# Altium integrated library Vishay Roederstein Electrolytic Snap-In Pins Capacitor.IntLib: 936 symbols (part 4 of 16)
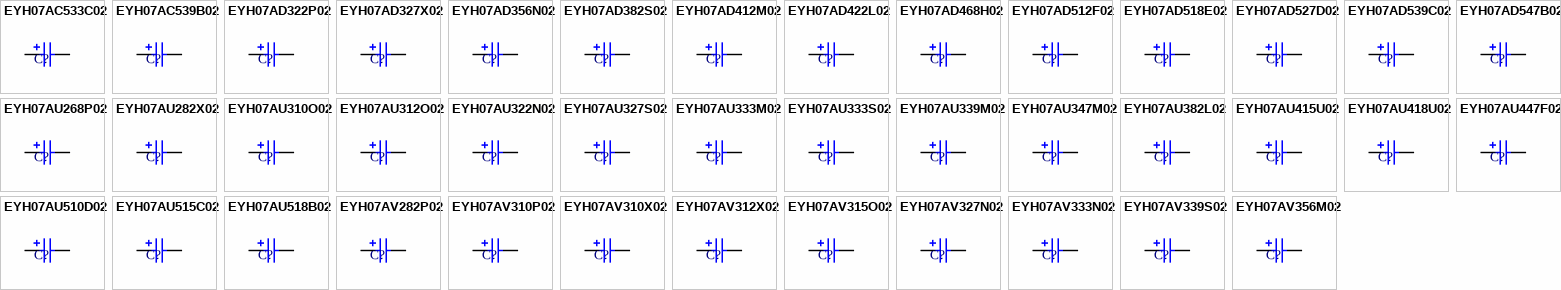
[diagram p26: symbols EYH07AC533C02 to EYH07AV356M02]

## EYH07AU333M02
designator C?
Aluminum Electrolytic Capacitor, Power Capacitor Style EYH, Snap-in 6mm Solder Pins: 330uF, 160V; PCB_Layout: Complies with Manufacturer's Recommendation.; DrillSize: Nominal, Complies with Manufacturer's Recommendation.; Published: 19-Mar-2004; DatasheetDocument: 14-Feb-2002; PackageReference: CAPPRS10-25X25; Publisher: Altium Limited; ComponentLink1Description: Manufacturer Link; ComponentLink1URL: http://www.vishay.com/; ComponentLink2Description: Datasheet; ComponentLink2URL: http://www.vishay.com/docs/25139/eyh.pdf; Value: 330uF
footprint CAPPRS10-25X25 (Capacitor, Electrolytic, Radial, Snap-In Pins; Body 25 x 25 mm (Dia.xH typ); Pin Spacing 10 mm (typ))
simulation model CAP (Capacitor)
signal-integrity model EYH07AU333M02
pins: 1, 2
1 alternate drawing of the same symbol

## EYH07AU333S02
designator C?
Aluminum Electrolytic Capacitor, Power Capacitor Style EYH, Snap-in 6mm Solder Pins: 330uF, 200V; PCB_Layout: Complies with Manufacturer's Recommendation.; DrillSize: Nominal, Complies with Manufacturer's Recommendation.; Published: 19-Mar-2004; DatasheetDocument: 14-Feb-2002; PackageReference: CAPPRS10-25X25; Publisher: Altium Limited; ComponentLink1Description: Manufacturer Link; ComponentLink1URL: http://www.vishay.com/; ComponentLink2Description: Datasheet; ComponentLink2URL: http://www.vishay.com/docs/25139/eyh.pdf; Value: 330uF
footprint CAPPRS10-25X25 (Capacitor, Electrolytic, Radial, Snap-In Pins; Body 25 x 25 mm (Dia.xH typ); Pin Spacing 10 mm (typ))
simulation model CAP (Capacitor)
signal-integrity model EYH07AU333S02
pins: 1, 2
1 alternate drawing of the same symbol

## EYH07AU339M02
designator C?
Aluminum Electrolytic Capacitor, Power Capacitor Style EYH, Snap-in 6mm Solder Pins: 390uF, 160V; PCB_Layout: Complies with Manufacturer's Recommendation.; DrillSize: Nominal, Complies with Manufacturer's Recommendation.; Published: 19-Mar-2004; DatasheetDocument: 14-Feb-2002; PackageReference: CAPPRS10-25X25; Publisher: Altium Limited; ComponentLink1Description: Manufacturer Link; ComponentLink1URL: http://www.vishay.com/; ComponentLink2Description: Datasheet; ComponentLink2URL: http://www.vishay.com/docs/25139/eyh.pdf; Value: 390uF
footprint CAPPRS10-25X25 (Capacitor, Electrolytic, Radial, Snap-In Pins; Body 25 x 25 mm (Dia.xH typ); Pin Spacing 10 mm (typ))
simulation model CAP (Capacitor)
signal-integrity model EYH07AU339M02
pins: 1, 2
1 alternate drawing of the same symbol

## EYH07AU347M02
designator C?
Aluminum Electrolytic Capacitor, Power Capacitor Style EYH, Snap-in 6mm Solder Pins: 470uF, 160V; PCB_Layout: Complies with Manufacturer's Recommendation.; DrillSize: Nominal, Complies with Manufacturer's Recommendation.; Published: 19-Mar-2004; DatasheetDocument: 14-Feb-2002; PackageReference: CAPPRS10-25X25; Publisher: Altium Limited; ComponentLink1Description: Manufacturer Link; ComponentLink1URL: http://www.vishay.com/; ComponentLink2Description: Datasheet; ComponentLink2URL: http://www.vishay.com/docs/25139/eyh.pdf; Value: 470uF
footprint CAPPRS10-25X25 (Capacitor, Electrolytic, Radial, Snap-In Pins; Body 25 x 25 mm (Dia.xH typ); Pin Spacing 10 mm (typ))
simulation model CAP (Capacitor)
signal-integrity model EYH07AU347M02
pins: 1, 2
1 alternate drawing of the same symbol

## EYH07AU382L02
designator C?
Aluminum Electrolytic Capacitor, Power Capacitor Style EYH, Snap-in 6mm Solder Pins: 820uF, 100V; PCB_Layout: Complies with Manufacturer's Recommendation.; DrillSize: Nominal, Complies with Manufacturer's Recommendation.; Published: 19-Mar-2004; DatasheetDocument: 14-Feb-2002; PackageReference: CAPPRS10-25X25; Publisher: Altium Limited; ComponentLink1Description: Manufacturer Link; ComponentLink1URL: http://www.vishay.com/; ComponentLink2Description: Datasheet; ComponentLink2URL: http://www.vishay.com/docs/25139/eyh.pdf; Value: 820uF
footprint CAPPRS10-25X25 (Capacitor, Electrolytic, Radial, Snap-In Pins; Body 25 x 25 mm (Dia.xH typ); Pin Spacing 10 mm (typ))
simulation model CAP (Capacitor)
signal-integrity model EYH07AU382L02
pins: 1, 2
1 alternate drawing of the same symbol

## EYH07AU415U02
designator C?
Aluminum Electrolytic Capacitor, Power Capacitor Style EYH, Snap-in 6mm Solder Pins: 1500uF, 63V; PCB_Layout: Complies with Manufacturer's Recommendation.; DrillSize: Nominal, Complies with Manufacturer's Recommendation.; Published: 19-Mar-2004; DatasheetDocument: 14-Feb-2002; PackageReference: CAPPRS10-25X25; Publisher: Altium Limited; ComponentLink1Description: Manufacturer Link; ComponentLink1URL: http://www.vishay.com/; ComponentLink2Description: Datasheet; ComponentLink2URL: http://www.vishay.com/docs/25139/eyh.pdf; Value: 1500uF
footprint CAPPRS10-25X25 (Capacitor, Electrolytic, Radial, Snap-In Pins; Body 25 x 25 mm (Dia.xH typ); Pin Spacing 10 mm (typ))
simulation model CAP (Capacitor)
signal-integrity model EYH07AU415U02
pins: 1, 2
1 alternate drawing of the same symbol

## EYH07AU418U02
designator C?
Aluminum Electrolytic Capacitor, Power Capacitor Style EYH, Snap-in 6mm Solder Pins: 1800uF, 63V; PCB_Layout: Complies with Manufacturer's Recommendation.; DrillSize: Nominal, Complies with Manufacturer's Recommendation.; Published: 19-Mar-2004; DatasheetDocument: 14-Feb-2002; PackageReference: CAPPRS10-25X25; Publisher: Altium Limited; ComponentLink1Description: Manufacturer Link; ComponentLink1URL: http://www.vishay.com/; ComponentLink2Description: Datasheet; ComponentLink2URL: http://www.vishay.com/docs/25139/eyh.pdf; Value: 1800uF
footprint CAPPRS10-25X25 (Capacitor, Electrolytic, Radial, Snap-In Pins; Body 25 x 25 mm (Dia.xH typ); Pin Spacing 10 mm (typ))
simulation model CAP (Capacitor)
signal-integrity model EYH07AU418U02
pins: 1, 2
1 alternate drawing of the same symbol

## EYH07AU447F02
designator C?
Aluminum Electrolytic Capacitor, Power Capacitor Style EYH, Snap-in 6mm Solder Pins: 4700uF, 35V; PCB_Layout: Complies with Manufacturer's Recommendation.; DrillSize: Nominal, Complies with Manufacturer's Recommendation.; Published: 19-Mar-2004; DatasheetDocument: 14-Feb-2002; PackageReference: CAPPRS10-25X25; Publisher: Altium Limited; ComponentLink1Description: Manufacturer Link; ComponentLink1URL: http://www.vishay.com/; ComponentLink2Description: Datasheet; ComponentLink2URL: http://www.vishay.com/docs/25139/eyh.pdf; Value: 4700uF
footprint CAPPRS10-25X25 (Capacitor, Electrolytic, Radial, Snap-In Pins; Body 25 x 25 mm (Dia.xH typ); Pin Spacing 10 mm (typ))
simulation model CAP (Capacitor)
signal-integrity model EYH07AU447F02
pins: 1, 2
1 alternate drawing of the same symbol

## EYH07AU510D02
designator C?
Aluminum Electrolytic Capacitor, Power Capacitor Style EYH, Snap-in 6mm Solder Pins: 10000uF, 16V; PCB_Layout: Complies with Manufacturer's Recommendation.; DrillSize: Nominal, Complies with Manufacturer's Recommendation.; Published: 19-Mar-2004; DatasheetDocument: 14-Feb-2002; PackageReference: CAPPRS10-25X25; Publisher: Altium Limited; ComponentLink1Description: Manufacturer Link; ComponentLink1URL: http://www.vishay.com/; ComponentLink2Description: Datasheet; ComponentLink2URL: http://www.vishay.com/docs/25139/eyh.pdf; Value: 10000uF
footprint CAPPRS10-25X25 (Capacitor, Electrolytic, Radial, Snap-In Pins; Body 25 x 25 mm (Dia.xH typ); Pin Spacing 10 mm (typ))
simulation model CAP (Capacitor)
signal-integrity model EYH07AU510D02
pins: 1, 2
1 alternate drawing of the same symbol

## EYH07AU515C02
designator C?
Aluminum Electrolytic Capacitor, Power Capacitor Style EYH, Snap-in 6mm Solder Pins: 15000uF, 10V; PCB_Layout: Complies with Manufacturer's Recommendation.; DrillSize: Nominal, Complies with Manufacturer's Recommendation.; Published: 19-Mar-2004; DatasheetDocument: 14-Feb-2002; PackageReference: CAPPRS10-25X25; Publisher: Altium Limited; ComponentLink1Description: Manufacturer Link; ComponentLink1URL: http://www.vishay.com/; ComponentLink2Description: Datasheet; ComponentLink2URL: http://www.vishay.com/docs/25139/eyh.pdf; Value: 15000uF
footprint CAPPRS10-25X25 (Capacitor, Electrolytic, Radial, Snap-In Pins; Body 25 x 25 mm (Dia.xH typ); Pin Spacing 10 mm (typ))
simulation model CAP (Capacitor)
signal-integrity model EYH07AU515C02
pins: 1, 2
1 alternate drawing of the same symbol

## EYH07AU518B02
designator C?
Aluminum Electrolytic Capacitor, Power Capacitor Style EYH, Snap-in 6mm Solder Pins: 18000uF, 6.3V; PCB_Layout: Complies with Manufacturer's Recommendation.; DrillSize: Nominal, Complies with Manufacturer's Recommendation.; Published: 19-Mar-2004; DatasheetDocument: 14-Feb-2002; PackageReference: CAPPRS10-25X25; Publisher: Altium Limited; ComponentLink1Description: Manufacturer Link; ComponentLink1URL: http://www.vishay.com/; ComponentLink2Description: Datasheet; ComponentLink2URL: http://www.vishay.com/docs/25139/eyh.pdf; Value: 18000uF
footprint CAPPRS10-25X25 (Capacitor, Electrolytic, Radial, Snap-In Pins; Body 25 x 25 mm (Dia.xH typ); Pin Spacing 10 mm (typ))
simulation model CAP (Capacitor)
signal-integrity model EYH07AU518B02
pins: 1, 2
1 alternate drawing of the same symbol

## EYH07AV282P02
designator C?
Aluminum Electrolytic Capacitor, Power Capacitor Style EYH, Snap-in 6mm Solder Pins: 82uF, 450V; PCB_Layout: Complies with Manufacturer's Recommendation.; DrillSize: Nominal, Complies with Manufacturer's Recommendation.; Published: 19-Mar-2004; DatasheetDocument: 14-Feb-2002; PackageReference: CAPPRS10-25X30; Publisher: Altium Limited; ComponentLink1Description: Manufacturer Link; ComponentLink1URL: http://www.vishay.com/; ComponentLink2Description: Datasheet; ComponentLink2URL: http://www.vishay.com/docs/25139/eyh.pdf; Value: 82uF
footprint CAPPRS10-25X30 (Capacitor, Electrolytic, Radial, Snap-In Pins; Body 25 x 30 mm (Dia.xH typ); Pin Spacing 10 mm (typ))
simulation model CAP (Capacitor)
signal-integrity model EYH07AV282P02
pins: 1, 2
1 alternate drawing of the same symbol

## EYH07AV310P02
designator C?
Aluminum Electrolytic Capacitor, Power Capacitor Style EYH, Snap-in 6mm Solder Pins: 100uF, 450V; PCB_Layout: Complies with Manufacturer's Recommendation.; DrillSize: Nominal, Complies with Manufacturer's Recommendation.; Published: 19-Mar-2004; DatasheetDocument: 14-Feb-2002; PackageReference: CAPPRS10-25X30; Publisher: Altium Limited; ComponentLink1Description: Manufacturer Link; ComponentLink1URL: http://www.vishay.com/; ComponentLink2Description: Datasheet; ComponentLink2URL: http://www.vishay.com/docs/25139/eyh.pdf; Value: 100uF
footprint CAPPRS10-25X30 (Capacitor, Electrolytic, Radial, Snap-In Pins; Body 25 x 30 mm (Dia.xH typ); Pin Spacing 10 mm (typ))
simulation model CAP (Capacitor)
signal-integrity model EYH07AV310P02
pins: 1, 2
1 alternate drawing of the same symbol

## EYH07AV310X02
designator C?
Aluminum Electrolytic Capacitor, Power Capacitor Style EYH, Snap-in 6mm Solder Pins: 100uF, 400V; PCB_Layout: Complies with Manufacturer's Recommendation.; DrillSize: Nominal, Complies with Manufacturer's Recommendation.; Published: 19-Mar-2004; DatasheetDocument: 14-Feb-2002; PackageReference: CAPPRS10-25X30; Publisher: Altium Limited; ComponentLink1Description: Manufacturer Link; ComponentLink1URL: http://www.vishay.com/; ComponentLink2Description: Datasheet; ComponentLink2URL: http://www.vishay.com/docs/25139/eyh.pdf; Value: 100uF
footprint CAPPRS10-25X30 (Capacitor, Electrolytic, Radial, Snap-In Pins; Body 25 x 30 mm (Dia.xH typ); Pin Spacing 10 mm (typ))
simulation model CAP (Capacitor)
signal-integrity model EYH07AV310X02
pins: 1, 2
1 alternate drawing of the same symbol

## EYH07AV312X02
designator C?
Aluminum Electrolytic Capacitor, Power Capacitor Style EYH, Snap-in 6mm Solder Pins: 120uF, 400V; PCB_Layout: Complies with Manufacturer's Recommendation.; DrillSize: Nominal, Complies with Manufacturer's Recommendation.; Published: 19-Mar-2004; DatasheetDocument: 14-Feb-2002; PackageReference: CAPPRS10-25X30; Publisher: Altium Limited; ComponentLink1Description: Manufacturer Link; ComponentLink1URL: http://www.vishay.com/; ComponentLink2Description: Datasheet; ComponentLink2URL: http://www.vishay.com/docs/25139/eyh.pdf; Value: 120uF
footprint CAPPRS10-25X30 (Capacitor, Electrolytic, Radial, Snap-In Pins; Body 25 x 30 mm (Dia.xH typ); Pin Spacing 10 mm (typ))
simulation model CAP (Capacitor)
signal-integrity model EYH07AV312X02
pins: 1, 2
1 alternate drawing of the same symbol

## EYH07AV315O02
designator C?
Aluminum Electrolytic Capacitor, Power Capacitor Style EYH, Snap-in 6mm Solder Pins: 150uF, 350V; PCB_Layout: Complies with Manufacturer's Recommendation.; DrillSize: Nominal, Complies with Manufacturer's Recommendation.; Published: 19-Mar-2004; DatasheetDocument: 14-Feb-2002; PackageReference: CAPPRS10-25X30; Publisher: Altium Limited; ComponentLink1Description: Manufacturer Link; ComponentLink1URL: http://www.vishay.com/; ComponentLink2Description: Datasheet; ComponentLink2URL: http://www.vishay.com/docs/25139/eyh.pdf; Value: 150uF
footprint CAPPRS10-25X30 (Capacitor, Electrolytic, Radial, Snap-In Pins; Body 25 x 30 mm (Dia.xH typ); Pin Spacing 10 mm (typ))
simulation model CAP (Capacitor)
signal-integrity model EYH07AV315O02
pins: 1, 2
1 alternate drawing of the same symbol

## EYH07AV327N02
designator C?
Aluminum Electrolytic Capacitor, Power Capacitor Style EYH, Snap-in 6mm Solder Pins: 270uF, 250V; PCB_Layout: Complies with Manufacturer's Recommendation.; DrillSize: Nominal, Complies with Manufacturer's Recommendation.; Published: 19-Mar-2004; DatasheetDocument: 14-Feb-2002; PackageReference: CAPPRS10-25X30; Publisher: Altium Limited; ComponentLink1Description: Manufacturer Link; ComponentLink1URL: http://www.vishay.com/; ComponentLink2Description: Datasheet; ComponentLink2URL: http://www.vishay.com/docs/25139/eyh.pdf; Value: 270uF
footprint CAPPRS10-25X30 (Capacitor, Electrolytic, Radial, Snap-In Pins; Body 25 x 30 mm (Dia.xH typ); Pin Spacing 10 mm (typ))
simulation model CAP (Capacitor)
signal-integrity model EYH07AV327N02
pins: 1, 2
1 alternate drawing of the same symbol

## EYH07AV333N02
designator C?
Aluminum Electrolytic Capacitor, Power Capacitor Style EYH, Snap-in 6mm Solder Pins: 330uF, 250V; PCB_Layout: Complies with Manufacturer's Recommendation.; DrillSize: Nominal, Complies with Manufacturer's Recommendation.; Published: 19-Mar-2004; DatasheetDocument: 14-Feb-2002; PackageReference: CAPPRS10-25X30; Publisher: Altium Limited; ComponentLink1Description: Manufacturer Link; ComponentLink1URL: http://www.vishay.com/; ComponentLink2Description: Datasheet; ComponentLink2URL: http://www.vishay.com/docs/25139/eyh.pdf; Value: 330uF
footprint CAPPRS10-25X30 (Capacitor, Electrolytic, Radial, Snap-In Pins; Body 25 x 30 mm (Dia.xH typ); Pin Spacing 10 mm (typ))
simulation model CAP (Capacitor)
signal-integrity model EYH07AV333N02
pins: 1, 2
1 alternate drawing of the same symbol

## EYH07AV339S02
designator C?
Aluminum Electrolytic Capacitor, Power Capacitor Style EYH, Snap-in 6mm Solder Pins: 390uF, 200V; PCB_Layout: Complies with Manufacturer's Recommendation.; DrillSize: Nominal, Complies with Manufacturer's Recommendation.; Published: 19-Mar-2004; DatasheetDocument: 14-Feb-2002; PackageReference: CAPPRS10-25X30; Publisher: Altium Limited; ComponentLink1Description: Manufacturer Link; ComponentLink1URL: http://www.vishay.com/; ComponentLink2Description: Datasheet; ComponentLink2URL: http://www.vishay.com/docs/25139/eyh.pdf; Value: 390uF
footprint CAPPRS10-25X30 (Capacitor, Electrolytic, Radial, Snap-In Pins; Body 25 x 30 mm (Dia.xH typ); Pin Spacing 10 mm (typ))
simulation model CAP (Capacitor)
signal-integrity model EYH07AV339S02
pins: 1, 2
1 alternate drawing of the same symbol

## EYH07AV356M02
designator C?
Aluminum Electrolytic Capacitor, Power Capacitor Style EYH, Snap-in 6mm Solder Pins: 560uF, 160V; PCB_Layout: Complies with Manufacturer's Recommendation.; DrillSize: Nominal, Complies with Manufacturer's Recommendation.; Published: 19-Mar-2004; DatasheetDocument: 14-Feb-2002; PackageReference: CAPPRS10-25X30; Publisher: Altium Limited; ComponentLink1Description: Manufacturer Link; ComponentLink1URL: http://www.vishay.com/; ComponentLink2Description: Datasheet; ComponentLink2URL: http://www.vishay.com/docs/25139/eyh.pdf; Value: 560uF
footprint CAPPRS10-25X30 (Capacitor, Electrolytic, Radial, Snap-In Pins; Body 25 x 30 mm (Dia.xH typ); Pin Spacing 10 mm (typ))
simulation model CAP (Capacitor)
signal-integrity model EYH07AV356M02
pins: 1, 2
1 alternate drawing of the same symbol

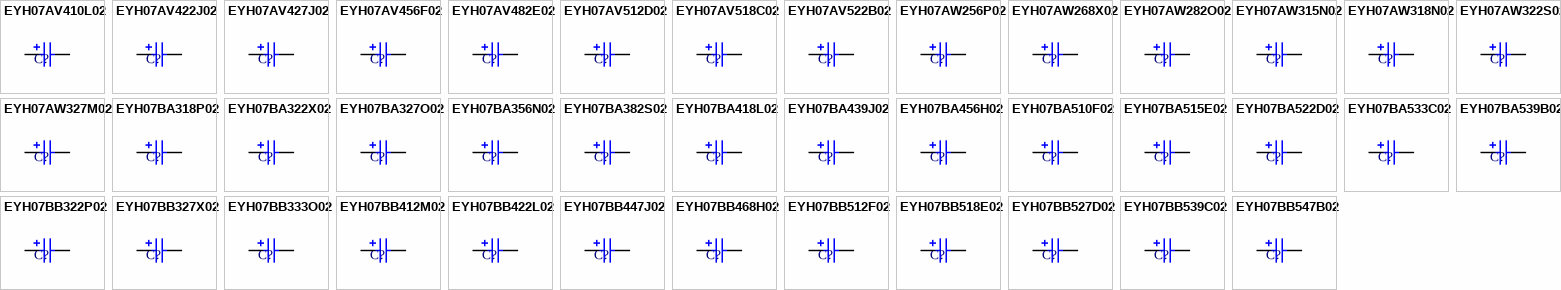
[diagram p5: symbols EYH07AV410L02 to EYH07BB547B02]

## EYH07AV410L02
designator C?
Aluminum Electrolytic Capacitor, Power Capacitor Style EYH, Snap-in 6mm Solder Pins: 1000uF, 100V; PCB_Layout: Complies with Manufacturer's Recommendation.; DrillSize: Nominal, Complies with Manufacturer's Recommendation.; Published: 19-Mar-2004; DatasheetDocument: 14-Feb-2002; PackageReference: CAPPRS10-25X30; Publisher: Altium Limited; ComponentLink1Description: Manufacturer Link; ComponentLink1URL: http://www.vishay.com/; ComponentLink2Description: Datasheet; ComponentLink2URL: http://www.vishay.com/docs/25139/eyh.pdf; Value: 1000uF
footprint CAPPRS10-25X30 (Capacitor, Electrolytic, Radial, Snap-In Pins; Body 25 x 30 mm (Dia.xH typ); Pin Spacing 10 mm (typ))
simulation model CAP (Capacitor)
signal-integrity model EYH07AV410L02
pins: 1, 2
1 alternate drawing of the same symbol

## EYH07AV422J02
designator C?
Aluminum Electrolytic Capacitor, Power Capacitor Style EYH, Snap-in 6mm Solder Pins: 2200uF, 63V; PCB_Layout: Complies with Manufacturer's Recommendation.; DrillSize: Nominal, Complies with Manufacturer's Recommendation.; Published: 19-Mar-2004; DatasheetDocument: 14-Feb-2002; PackageReference: CAPPRS10-25X30; Publisher: Altium Limited; ComponentLink1Description: Manufacturer Link; ComponentLink1URL: http://www.vishay.com/; ComponentLink2Description: Datasheet; ComponentLink2URL: http://www.vishay.com/docs/25139/eyh.pdf; Value: 2200uF
footprint CAPPRS10-25X30 (Capacitor, Electrolytic, Radial, Snap-In Pins; Body 25 x 30 mm (Dia.xH typ); Pin Spacing 10 mm (typ))
simulation model CAP (Capacitor)
signal-integrity model EYH07AV422J02
pins: 1, 2
1 alternate drawing of the same symbol

## EYH07AV427J02
designator C?
Aluminum Electrolytic Capacitor, Power Capacitor Style EYH, Snap-in 6mm Solder Pins: 2700uF, 63V; PCB_Layout: Complies with Manufacturer's Recommendation.; DrillSize: Nominal, Complies with Manufacturer's Recommendation.; Published: 19-Mar-2004; DatasheetDocument: 14-Feb-2002; PackageReference: CAPPRS10-25X30; Publisher: Altium Limited; ComponentLink1Description: Manufacturer Link; ComponentLink1URL: http://www.vishay.com/; ComponentLink2Description: Datasheet; ComponentLink2URL: http://www.vishay.com/docs/25139/eyh.pdf; Value: 2700uF
footprint CAPPRS10-25X30 (Capacitor, Electrolytic, Radial, Snap-In Pins; Body 25 x 30 mm (Dia.xH typ); Pin Spacing 10 mm (typ))
simulation model CAP (Capacitor)
signal-integrity model EYH07AV427J02
pins: 1, 2
1 alternate drawing of the same symbol

## EYH07AV456F02
designator C?
Aluminum Electrolytic Capacitor, Power Capacitor Style EYH, Snap-in 6mm Solder Pins: 5600uF, 35V; PCB_Layout: Complies with Manufacturer's Recommendation.; DrillSize: Nominal, Complies with Manufacturer's Recommendation.; Published: 19-Mar-2004; DatasheetDocument: 14-Feb-2002; PackageReference: CAPPRS10-25X30; Publisher: Altium Limited; ComponentLink1Description: Manufacturer Link; ComponentLink1URL: http://www.vishay.com/; ComponentLink2Description: Datasheet; ComponentLink2URL: http://www.vishay.com/docs/25139/eyh.pdf; Value: 5600uF
footprint CAPPRS10-25X30 (Capacitor, Electrolytic, Radial, Snap-In Pins; Body 25 x 30 mm (Dia.xH typ); Pin Spacing 10 mm (typ))
simulation model CAP (Capacitor)
signal-integrity model EYH07AV456F02
pins: 1, 2
1 alternate drawing of the same symbol

## EYH07AV482E02
designator C?
Aluminum Electrolytic Capacitor, Power Capacitor Style EYH, Snap-in 6mm Solder Pins: 8200uF, 25V; PCB_Layout: Complies with Manufacturer's Recommendation.; DrillSize: Nominal, Complies with Manufacturer's Recommendation.; Published: 19-Mar-2004; DatasheetDocument: 14-Feb-2002; PackageReference: CAPPRS10-25X30; Publisher: Altium Limited; ComponentLink1Description: Manufacturer Link; ComponentLink1URL: http://www.vishay.com/; ComponentLink2Description: Datasheet; ComponentLink2URL: http://www.vishay.com/docs/25139/eyh.pdf; Value: 8200uF
footprint CAPPRS10-25X30 (Capacitor, Electrolytic, Radial, Snap-In Pins; Body 25 x 30 mm (Dia.xH typ); Pin Spacing 10 mm (typ))
simulation model CAP (Capacitor)
signal-integrity model EYH07AV482E02
pins: 1, 2
1 alternate drawing of the same symbol

## EYH07AV512D02
designator C?
Aluminum Electrolytic Capacitor, Power Capacitor Style EYH, Snap-in 6mm Solder Pins: 12000uF, 16V; PCB_Layout: Complies with Manufacturer's Recommendation.; DrillSize: Nominal, Complies with Manufacturer's Recommendation.; Published: 19-Mar-2004; DatasheetDocument: 14-Feb-2002; PackageReference: CAPPRS10-25X30; Publisher: Altium Limited; ComponentLink1Description: Manufacturer Link; ComponentLink1URL: http://www.vishay.com/; ComponentLink2Description: Datasheet; ComponentLink2URL: http://www.vishay.com/docs/25139/eyh.pdf; Value: 12000uF
footprint CAPPRS10-25X30 (Capacitor, Electrolytic, Radial, Snap-In Pins; Body 25 x 30 mm (Dia.xH typ); Pin Spacing 10 mm (typ))
simulation model CAP (Capacitor)
signal-integrity model EYH07AV512D02
pins: 1, 2
1 alternate drawing of the same symbol

## EYH07AV518C02
designator C?
Aluminum Electrolytic Capacitor, Power Capacitor Style EYH, Snap-in 6mm Solder Pins: 18000uF, 10V; PCB_Layout: Complies with Manufacturer's Recommendation.; DrillSize: Nominal, Complies with Manufacturer's Recommendation.; Published: 19-Mar-2004; DatasheetDocument: 14-Feb-2002; PackageReference: CAPPRS10-25X30; Publisher: Altium Limited; ComponentLink1Description: Manufacturer Link; ComponentLink1URL: http://www.vishay.com/; ComponentLink2Description: Datasheet; ComponentLink2URL: http://www.vishay.com/docs/25139/eyh.pdf; Value: 18000uF
footprint CAPPRS10-25X30 (Capacitor, Electrolytic, Radial, Snap-In Pins; Body 25 x 30 mm (Dia.xH typ); Pin Spacing 10 mm (typ))
simulation model CAP (Capacitor)
signal-integrity model EYH07AV518C02
pins: 1, 2
1 alternate drawing of the same symbol

## EYH07AV522B02
designator C?
Aluminum Electrolytic Capacitor, Power Capacitor Style EYH, Snap-in 6mm Solder Pins: 22000uF, 6.3V; PCB_Layout: Complies with Manufacturer's Recommendation.; DrillSize: Nominal, Complies with Manufacturer's Recommendation.; Published: 19-Mar-2004; DatasheetDocument: 14-Feb-2002; PackageReference: CAPPRS10-25X30; Publisher: Altium Limited; ComponentLink1Description: Manufacturer Link; ComponentLink1URL: http://www.vishay.com/; ComponentLink2Description: Datasheet; ComponentLink2URL: http://www.vishay.com/docs/25139/eyh.pdf; Value: 22000uF
footprint CAPPRS10-25X30 (Capacitor, Electrolytic, Radial, Snap-In Pins; Body 25 x 30 mm (Dia.xH typ); Pin Spacing 10 mm (typ))
simulation model CAP (Capacitor)
signal-integrity model EYH07AV522B02
pins: 1, 2
1 alternate drawing of the same symbol

## EYH07AW256P02
designator C?
Aluminum Electrolytic Capacitor, Power Capacitor Style EYH, Snap-in 6mm Solder Pins: 56uF, 450V; PCB_Layout: Complies with Manufacturer's Recommendation.; DrillSize: Nominal, Complies with Manufacturer's Recommendation.; Published: 19-Mar-2004; DatasheetDocument: 14-Feb-2002; PackageReference: CAPPRS10-25X20; Publisher: Altium Limited; ComponentLink1Description: Manufacturer Link; ComponentLink1URL: http://www.vishay.com/; ComponentLink2Description: Datasheet; ComponentLink2URL: http://www.vishay.com/docs/25139/eyh.pdf; Value: 56uF
footprint CAPPRS10-25X20 (Capacitor, Electrolytic, Radial, Snap-In Pins; Body 25 x 20 mm (Dia.xH typ); Pin Spacing 10 mm (typ))
simulation model CAP (Capacitor)
signal-integrity model EYH07AW256P02
pins: 1, 2
1 alternate drawing of the same symbol

## EYH07AW268X02
designator C?
Aluminum Electrolytic Capacitor, Power Capacitor Style EYH, Snap-in 6mm Solder Pins: 68uF, 400V; PCB_Layout: Complies with Manufacturer's Recommendation.; DrillSize: Nominal, Complies with Manufacturer's Recommendation.; Published: 19-Mar-2004; DatasheetDocument: 14-Feb-2002; PackageReference: CAPPRS10-25X20; Publisher: Altium Limited; ComponentLink1Description: Manufacturer Link; ComponentLink1URL: http://www.vishay.com/; ComponentLink2Description: Datasheet; ComponentLink2URL: http://www.vishay.com/docs/25139/eyh.pdf; Value: 68uF
footprint CAPPRS10-25X20 (Capacitor, Electrolytic, Radial, Snap-In Pins; Body 25 x 20 mm (Dia.xH typ); Pin Spacing 10 mm (typ))
simulation model CAP (Capacitor)
signal-integrity model EYH07AW268X02
pins: 1, 2
1 alternate drawing of the same symbol

## EYH07AW282O02
designator C?
Aluminum Electrolytic Capacitor, Power Capacitor Style EYH, Snap-in 6mm Solder Pins: 82uF, 350V; PCB_Layout: Complies with Manufacturer's Recommendation.; DrillSize: Nominal, Complies with Manufacturer's Recommendation.; Published: 19-Mar-2004; DatasheetDocument: 14-Feb-2002; PackageReference: CAPPRS10-25X20; Publisher: Altium Limited; ComponentLink1Description: Manufacturer Link; ComponentLink1URL: http://www.vishay.com/; ComponentLink2Description: Datasheet; ComponentLink2URL: http://www.vishay.com/docs/25139/eyh.pdf; Value: 82uF
footprint CAPPRS10-25X20 (Capacitor, Electrolytic, Radial, Snap-In Pins; Body 25 x 20 mm (Dia.xH typ); Pin Spacing 10 mm (typ))
simulation model CAP (Capacitor)
signal-integrity model EYH07AW282O02
pins: 1, 2
1 alternate drawing of the same symbol

## EYH07AW315N02
designator C?
Aluminum Electrolytic Capacitor, Power Capacitor Style EYH, Snap-in 6mm Solder Pins: 150uF, 250V; PCB_Layout: Complies with Manufacturer's Recommendation.; DrillSize: Nominal, Complies with Manufacturer's Recommendation.; Published: 19-Mar-2004; DatasheetDocument: 14-Feb-2002; PackageReference: CAPPRS10-25X20; Publisher: Altium Limited; ComponentLink1Description: Manufacturer Link; ComponentLink1URL: http://www.vishay.com/; ComponentLink2Description: Datasheet; ComponentLink2URL: http://www.vishay.com/docs/25139/eyh.pdf; Value: 150uF
footprint CAPPRS10-25X20 (Capacitor, Electrolytic, Radial, Snap-In Pins; Body 25 x 20 mm (Dia.xH typ); Pin Spacing 10 mm (typ))
simulation model CAP (Capacitor)
signal-integrity model EYH07AW315N02
pins: 1, 2
1 alternate drawing of the same symbol

## EYH07AW318N02
designator C?
Aluminum Electrolytic Capacitor, Power Capacitor Style EYH, Snap-in 6mm Solder Pins: 180uF, 250V; PCB_Layout: Complies with Manufacturer's Recommendation.; DrillSize: Nominal, Complies with Manufacturer's Recommendation.; Published: 19-Mar-2004; DatasheetDocument: 14-Feb-2002; PackageReference: CAPPRS10-25X20; Publisher: Altium Limited; ComponentLink1Description: Manufacturer Link; ComponentLink1URL: http://www.vishay.com/; ComponentLink2Description: Datasheet; ComponentLink2URL: http://www.vishay.com/docs/25139/eyh.pdf; Value: 180uF
footprint CAPPRS10-25X20 (Capacitor, Electrolytic, Radial, Snap-In Pins; Body 25 x 20 mm (Dia.xH typ); Pin Spacing 10 mm (typ))
simulation model CAP (Capacitor)
signal-integrity model EYH07AW318N02
pins: 1, 2
1 alternate drawing of the same symbol

## EYH07AW322S02
designator C?
Aluminum Electrolytic Capacitor, Power Capacitor Style EYH, Snap-in 6mm Solder Pins: 220uF, 200V; PCB_Layout: Complies with Manufacturer's Recommendation.; DrillSize: Nominal, Complies with Manufacturer's Recommendation.; Published: 19-Mar-2004; DatasheetDocument: 14-Feb-2002; PackageReference: CAPPRS10-25X20; Publisher: Altium Limited; ComponentLink1Description: Manufacturer Link; ComponentLink1URL: http://www.vishay.com/; ComponentLink2Description: Datasheet; ComponentLink2URL: http://www.vishay.com/docs/25139/eyh.pdf; Value: 220uF
footprint CAPPRS10-25X20 (Capacitor, Electrolytic, Radial, Snap-In Pins; Body 25 x 20 mm (Dia.xH typ); Pin Spacing 10 mm (typ))
simulation model CAP (Capacitor)
signal-integrity model EYH07AW322S02
pins: 1, 2
1 alternate drawing of the same symbol

## EYH07AW327M02
designator C?
Aluminum Electrolytic Capacitor, Power Capacitor Style EYH, Snap-in 6mm Solder Pins: 270uF, 160V; PCB_Layout: Complies with Manufacturer's Recommendation.; DrillSize: Nominal, Complies with Manufacturer's Recommendation.; Published: 19-Mar-2004; DatasheetDocument: 14-Feb-2002; PackageReference: CAPPRS10-25X20; Publisher: Altium Limited; ComponentLink1Description: Manufacturer Link; ComponentLink1URL: http://www.vishay.com/; ComponentLink2Description: Datasheet; ComponentLink2URL: http://www.vishay.com/docs/25139/eyh.pdf; Value: 270uF
footprint CAPPRS10-25X20 (Capacitor, Electrolytic, Radial, Snap-In Pins; Body 25 x 20 mm (Dia.xH typ); Pin Spacing 10 mm (typ))
simulation model CAP (Capacitor)
signal-integrity model EYH07AW327M02
pins: 1, 2
1 alternate drawing of the same symbol

## EYH07BA318P02
designator C?
Aluminum Electrolytic Capacitor, Power Capacitor Style EYH, Snap-in 6mm Solder Pins: 180uF, 450V; PCB_Layout: Complies with Manufacturer's Recommendation.; DrillSize: Nominal, Complies with Manufacturer's Recommendation.; Published: 19-Mar-2004; DatasheetDocument: 14-Feb-2002; PackageReference: CAPPRS10-30X35; Publisher: Altium Limited; ComponentLink1Description: Manufacturer Link; ComponentLink1URL: http://www.vishay.com/; ComponentLink2Description: Datasheet; ComponentLink2URL: http://www.vishay.com/docs/25139/eyh.pdf; Value: 180uF
footprint CAPPRS10-30X35 (Capacitor, Electrolytic, Radial, Snap-In Pins; Body 30 x 35 mm (Dia.xH typ); Pin Spacing 10 mm (typ))
simulation model CAP (Capacitor)
signal-integrity model EYH07BA318P02
pins: 1, 2
1 alternate drawing of the same symbol

## EYH07BA322X02
designator C?
Aluminum Electrolytic Capacitor, Power Capacitor Style EYH, Snap-in 6mm Solder Pins: 220uF, 400V; PCB_Layout: Complies with Manufacturer's Recommendation.; DrillSize: Nominal, Complies with Manufacturer's Recommendation.; Published: 19-Mar-2004; DatasheetDocument: 14-Feb-2002; PackageReference: CAPPRS10-30X35; Publisher: Altium Limited; ComponentLink1Description: Manufacturer Link; ComponentLink1URL: http://www.vishay.com/; ComponentLink2Description: Datasheet; ComponentLink2URL: http://www.vishay.com/docs/25139/eyh.pdf; Value: 220uF
footprint CAPPRS10-30X35 (Capacitor, Electrolytic, Radial, Snap-In Pins; Body 30 x 35 mm (Dia.xH typ); Pin Spacing 10 mm (typ))
simulation model CAP (Capacitor)
signal-integrity model EYH07BA322X02
pins: 1, 2
1 alternate drawing of the same symbol

## EYH07BA327O02
designator C?
Aluminum Electrolytic Capacitor, Power Capacitor Style EYH, Snap-in 6mm Solder Pins: 270uF, 350V; PCB_Layout: Complies with Manufacturer's Recommendation.; DrillSize: Nominal, Complies with Manufacturer's Recommendation.; Published: 19-Mar-2004; DatasheetDocument: 14-Feb-2002; PackageReference: CAPPRS10-30X35; Publisher: Altium Limited; ComponentLink1Description: Manufacturer Link; ComponentLink1URL: http://www.vishay.com/; ComponentLink2Description: Datasheet; ComponentLink2URL: http://www.vishay.com/docs/25139/eyh.pdf; Value: 270uF
footprint CAPPRS10-30X35 (Capacitor, Electrolytic, Radial, Snap-In Pins; Body 30 x 35 mm (Dia.xH typ); Pin Spacing 10 mm (typ))
simulation model CAP (Capacitor)
signal-integrity model EYH07BA327O02
pins: 1, 2
1 alternate drawing of the same symbol

## EYH07BA356N02
designator C?
Aluminum Electrolytic Capacitor, Power Capacitor Style EYH, Snap-in 6mm Solder Pins: 560uF, 250V; PCB_Layout: Complies with Manufacturer's Recommendation.; DrillSize: Nominal, Complies with Manufacturer's Recommendation.; Published: 19-Mar-2004; DatasheetDocument: 14-Feb-2002; PackageReference: CAPPRS10-30X35; Publisher: Altium Limited; ComponentLink1Description: Manufacturer Link; ComponentLink1URL: http://www.vishay.com/; ComponentLink2Description: Datasheet; ComponentLink2URL: http://www.vishay.com/docs/25139/eyh.pdf; Value: 560uF
footprint CAPPRS10-30X35 (Capacitor, Electrolytic, Radial, Snap-In Pins; Body 30 x 35 mm (Dia.xH typ); Pin Spacing 10 mm (typ))
simulation model CAP (Capacitor)
signal-integrity model EYH07BA356N02
pins: 1, 2
1 alternate drawing of the same symbol

## EYH07BA382S02
designator C?
Aluminum Electrolytic Capacitor, Power Capacitor Style EYH, Snap-in 6mm Solder Pins: 820uF, 200V; PCB_Layout: Complies with Manufacturer's Recommendation.; DrillSize: Nominal, Complies with Manufacturer's Recommendation.; Published: 19-Mar-2004; DatasheetDocument: 14-Feb-2002; PackageReference: CAPPRS10-30X35; Publisher: Altium Limited; ComponentLink1Description: Manufacturer Link; ComponentLink1URL: http://www.vishay.com/; ComponentLink2Description: Datasheet; ComponentLink2URL: http://www.vishay.com/docs/25139/eyh.pdf; Value: 820uF
footprint CAPPRS10-30X35 (Capacitor, Electrolytic, Radial, Snap-In Pins; Body 30 x 35 mm (Dia.xH typ); Pin Spacing 10 mm (typ))
simulation model CAP (Capacitor)
signal-integrity model EYH07BA382S02
pins: 1, 2
1 alternate drawing of the same symbol

## EYH07BA418L02
designator C?
Aluminum Electrolytic Capacitor, Power Capacitor Style EYH, Snap-in 6mm Solder Pins: 1800uF, 100V; PCB_Layout: Complies with Manufacturer's Recommendation.; DrillSize: Nominal, Complies with Manufacturer's Recommendation.; Published: 19-Mar-2004; DatasheetDocument: 14-Feb-2002; PackageReference: CAPPRS10-30X35; Publisher: Altium Limited; ComponentLink1Description: Manufacturer Link; ComponentLink1URL: http://www.vishay.com/; ComponentLink2Description: Datasheet; ComponentLink2URL: http://www.vishay.com/docs/25139/eyh.pdf; Value: 1800uF
footprint CAPPRS10-30X35 (Capacitor, Electrolytic, Radial, Snap-In Pins; Body 30 x 35 mm (Dia.xH typ); Pin Spacing 10 mm (typ))
simulation model CAP (Capacitor)
signal-integrity model EYH07BA418L02
pins: 1, 2
1 alternate drawing of the same symbol

## EYH07BA439J02
designator C?
Aluminum Electrolytic Capacitor, Power Capacitor Style EYH, Snap-in 6mm Solder Pins: 3900uF, 63V; PCB_Layout: Complies with Manufacturer's Recommendation.; DrillSize: Nominal, Complies with Manufacturer's Recommendation.; Published: 19-Mar-2004; DatasheetDocument: 14-Feb-2002; PackageReference: CAPPRS10-30X35; Publisher: Altium Limited; ComponentLink1Description: Manufacturer Link; ComponentLink1URL: http://www.vishay.com/; ComponentLink2Description: Datasheet; ComponentLink2URL: http://www.vishay.com/docs/25139/eyh.pdf; Value: 3900uF
footprint CAPPRS10-30X35 (Capacitor, Electrolytic, Radial, Snap-In Pins; Body 30 x 35 mm (Dia.xH typ); Pin Spacing 10 mm (typ))
simulation model CAP (Capacitor)
signal-integrity model EYH07BA439J02
pins: 1, 2
1 alternate drawing of the same symbol

## EYH07BA456H02
designator C?
Aluminum Electrolytic Capacitor, Power Capacitor Style EYH, Snap-in 6mm Solder Pins: 5600uF, 50V; PCB_Layout: Complies with Manufacturer's Recommendation.; DrillSize: Nominal, Complies with Manufacturer's Recommendation.; Published: 19-Mar-2004; DatasheetDocument: 14-Feb-2002; PackageReference: CAPPRS10-30X35; Publisher: Altium Limited; ComponentLink1Description: Manufacturer Link; ComponentLink1URL: http://www.vishay.com/; ComponentLink2Description: Datasheet; ComponentLink2URL: http://www.vishay.com/docs/25139/eyh.pdf; Value: 5600uF
footprint CAPPRS10-30X35 (Capacitor, Electrolytic, Radial, Snap-In Pins; Body 30 x 35 mm (Dia.xH typ); Pin Spacing 10 mm (typ))
simulation model CAP (Capacitor)
signal-integrity model EYH07BA456H02
pins: 1, 2
1 alternate drawing of the same symbol

## EYH07BA510F02
designator C?
Aluminum Electrolytic Capacitor, Power Capacitor Style EYH, Snap-in 6mm Solder Pins: 10000uF, 35V; PCB_Layout: Complies with Manufacturer's Recommendation.; DrillSize: Nominal, Complies with Manufacturer's Recommendation.; Published: 19-Mar-2004; DatasheetDocument: 14-Feb-2002; PackageReference: CAPPRS10-30X35; Publisher: Altium Limited; ComponentLink1Description: Manufacturer Link; ComponentLink1URL: http://www.vishay.com/; ComponentLink2Description: Datasheet; ComponentLink2URL: http://www.vishay.com/docs/25139/eyh.pdf; Value: 10000uF
footprint CAPPRS10-30X35 (Capacitor, Electrolytic, Radial, Snap-In Pins; Body 30 x 35 mm (Dia.xH typ); Pin Spacing 10 mm (typ))
simulation model CAP (Capacitor)
signal-integrity model EYH07BA510F02
pins: 1, 2
1 alternate drawing of the same symbol

## EYH07BA515E02
designator C?
Aluminum Electrolytic Capacitor, Power Capacitor Style EYH, Snap-in 6mm Solder Pins: 15000uF, 25V; PCB_Layout: Complies with Manufacturer's Recommendation.; DrillSize: Nominal, Complies with Manufacturer's Recommendation.; Published: 19-Mar-2004; DatasheetDocument: 14-Feb-2002; PackageReference: CAPPRS10-30X35; Publisher: Altium Limited; ComponentLink1Description: Manufacturer Link; ComponentLink1URL: http://www.vishay.com/; ComponentLink2Description: Datasheet; ComponentLink2URL: http://www.vishay.com/docs/25139/eyh.pdf; Value: 15000uF
footprint CAPPRS10-30X35 (Capacitor, Electrolytic, Radial, Snap-In Pins; Body 30 x 35 mm (Dia.xH typ); Pin Spacing 10 mm (typ))
simulation model CAP (Capacitor)
signal-integrity model EYH07BA515E02
pins: 1, 2
1 alternate drawing of the same symbol

## EYH07BA522D02
designator C?
Aluminum Electrolytic Capacitor, Power Capacitor Style EYH, Snap-in 6mm Solder Pins: 22000uF, 16V; PCB_Layout: Complies with Manufacturer's Recommendation.; DrillSize: Nominal, Complies with Manufacturer's Recommendation.; Published: 19-Mar-2004; DatasheetDocument: 14-Feb-2002; PackageReference: CAPPRS10-30X35; Publisher: Altium Limited; ComponentLink1Description: Manufacturer Link; ComponentLink1URL: http://www.vishay.com/; ComponentLink2Description: Datasheet; ComponentLink2URL: http://www.vishay.com/docs/25139/eyh.pdf; Value: 22000uF
footprint CAPPRS10-30X35 (Capacitor, Electrolytic, Radial, Snap-In Pins; Body 30 x 35 mm (Dia.xH typ); Pin Spacing 10 mm (typ))
simulation model CAP (Capacitor)
signal-integrity model EYH07BA522D02
pins: 1, 2
1 alternate drawing of the same symbol

## EYH07BA533C02
designator C?
Aluminum Electrolytic Capacitor, Power Capacitor Style EYH, Snap-in 6mm Solder Pins: 33000uF, 10V; PCB_Layout: Complies with Manufacturer's Recommendation.; DrillSize: Nominal, Complies with Manufacturer's Recommendation.; Published: 19-Mar-2004; DatasheetDocument: 14-Feb-2002; PackageReference: CAPPRS10-30X35; Publisher: Altium Limited; ComponentLink1Description: Manufacturer Link; ComponentLink1URL: http://www.vishay.com/; ComponentLink2Description: Datasheet; ComponentLink2URL: http://www.vishay.com/docs/25139/eyh.pdf; Value: 33000uF
footprint CAPPRS10-30X35 (Capacitor, Electrolytic, Radial, Snap-In Pins; Body 30 x 35 mm (Dia.xH typ); Pin Spacing 10 mm (typ))
simulation model CAP (Capacitor)
signal-integrity model EYH07BA533C02
pins: 1, 2
1 alternate drawing of the same symbol

## EYH07BA539B02
designator C?
Aluminum Electrolytic Capacitor, Power Capacitor Style EYH, Snap-in 6mm Solder Pins: 39000uF, 6.3V; PCB_Layout: Complies with Manufacturer's Recommendation.; DrillSize: Nominal, Complies with Manufacturer's Recommendation.; Published: 19-Mar-2004; DatasheetDocument: 14-Feb-2002; PackageReference: CAPPRS10-30X35; Publisher: Altium Limited; ComponentLink1Description: Manufacturer Link; ComponentLink1URL: http://www.vishay.com/; ComponentLink2Description: Datasheet; ComponentLink2URL: http://www.vishay.com/docs/25139/eyh.pdf; Value: 39000uF
footprint CAPPRS10-30X35 (Capacitor, Electrolytic, Radial, Snap-In Pins; Body 30 x 35 mm (Dia.xH typ); Pin Spacing 10 mm (typ))
simulation model CAP (Capacitor)
signal-integrity model EYH07BA539B02
pins: 1, 2
1 alternate drawing of the same symbol

## EYH07BB322P02
designator C?
Aluminum Electrolytic Capacitor, Power Capacitor Style EYH, Snap-in 6mm Solder Pins: 220uF, 450V; PCB_Layout: Complies with Manufacturer's Recommendation.; DrillSize: Nominal, Complies with Manufacturer's Recommendation.; Published: 19-Mar-2004; DatasheetDocument: 14-Feb-2002; PackageReference: CAPPRS10-30X40; Publisher: Altium Limited; ComponentLink1Description: Manufacturer Link; ComponentLink1URL: http://www.vishay.com/; ComponentLink2Description: Datasheet; ComponentLink2URL: http://www.vishay.com/docs/25139/eyh.pdf; Value: 220uF
footprint CAPPRS10-30X40 (Capacitor, Electrolytic, Radial, Snap-In Pins; Body 30 x 40 mm (Dia.xH typ); Pin Spacing 10 mm (typ))
simulation model CAP (Capacitor)
signal-integrity model EYH07BB322P02
pins: 1, 2
1 alternate drawing of the same symbol

## EYH07BB327X02
designator C?
Aluminum Electrolytic Capacitor, Power Capacitor Style EYH, Snap-in 6mm Solder Pins: 270uF, 400V; PCB_Layout: Complies with Manufacturer's Recommendation.; DrillSize: Nominal, Complies with Manufacturer's Recommendation.; Published: 19-Mar-2004; DatasheetDocument: 14-Feb-2002; PackageReference: CAPPRS10-30X40; Publisher: Altium Limited; ComponentLink1Description: Manufacturer Link; ComponentLink1URL: http://www.vishay.com/; ComponentLink2Description: Datasheet; ComponentLink2URL: http://www.vishay.com/docs/25139/eyh.pdf; Value: 270uF
footprint CAPPRS10-30X40 (Capacitor, Electrolytic, Radial, Snap-In Pins; Body 30 x 40 mm (Dia.xH typ); Pin Spacing 10 mm (typ))
simulation model CAP (Capacitor)
signal-integrity model EYH07BB327X02
pins: 1, 2
1 alternate drawing of the same symbol

## EYH07BB333O02
designator C?
Aluminum Electrolytic Capacitor, Power Capacitor Style EYH, Snap-in 6mm Solder Pins: 330uF, 350V; PCB_Layout: Complies with Manufacturer's Recommendation.; DrillSize: Nominal, Complies with Manufacturer's Recommendation.; Published: 19-Mar-2004; DatasheetDocument: 14-Feb-2002; PackageReference: CAPPRS10-30X40; Publisher: Altium Limited; ComponentLink1Description: Manufacturer Link; ComponentLink1URL: http://www.vishay.com/; ComponentLink2Description: Datasheet; ComponentLink2URL: http://www.vishay.com/docs/25139/eyh.pdf; Value: 330uF
footprint CAPPRS10-30X40 (Capacitor, Electrolytic, Radial, Snap-In Pins; Body 30 x 40 mm (Dia.xH typ); Pin Spacing 10 mm (typ))
simulation model CAP (Capacitor)
signal-integrity model EYH07BB333O02
pins: 1, 2
1 alternate drawing of the same symbol

## EYH07BB412M02
designator C?
Aluminum Electrolytic Capacitor, Power Capacitor Style EYH, Snap-in 6mm Solder Pins: 1200uF, 160V; PCB_Layout: Complies with Manufacturer's Recommendation.; DrillSize: Nominal, Complies with Manufacturer's Recommendation.; Published: 19-Mar-2004; DatasheetDocument: 14-Feb-2002; PackageReference: CAPPRS10-30X40; Publisher: Altium Limited; ComponentLink1Description: Manufacturer Link; ComponentLink1URL: http://www.vishay.com/; ComponentLink2Description: Datasheet; ComponentLink2URL: http://www.vishay.com/docs/25139/eyh.pdf; Value: 1200uF
footprint CAPPRS10-30X40 (Capacitor, Electrolytic, Radial, Snap-In Pins; Body 30 x 40 mm (Dia.xH typ); Pin Spacing 10 mm (typ))
simulation model CAP (Capacitor)
signal-integrity model EYH07BB412M02
pins: 1, 2
1 alternate drawing of the same symbol

## EYH07BB422L02
designator C?
Aluminum Electrolytic Capacitor, Power Capacitor Style EYH, Snap-in 6mm Solder Pins: 2200uF, 100V; PCB_Layout: Complies with Manufacturer's Recommendation.; DrillSize: Nominal, Complies with Manufacturer's Recommendation.; Published: 19-Mar-2004; DatasheetDocument: 14-Feb-2002; PackageReference: CAPPRS10-30X40; Publisher: Altium Limited; ComponentLink1Description: Manufacturer Link; ComponentLink1URL: http://www.vishay.com/; ComponentLink2Description: Datasheet; ComponentLink2URL: http://www.vishay.com/docs/25139/eyh.pdf; Value: 2200uF
footprint CAPPRS10-30X40 (Capacitor, Electrolytic, Radial, Snap-In Pins; Body 30 x 40 mm (Dia.xH typ); Pin Spacing 10 mm (typ))
simulation model CAP (Capacitor)
signal-integrity model EYH07BB422L02
pins: 1, 2
1 alternate drawing of the same symbol

## EYH07BB447J02
designator C?
Aluminum Electrolytic Capacitor, Power Capacitor Style EYH, Snap-in 6mm Solder Pins: 4700uF, 63V; PCB_Layout: Complies with Manufacturer's Recommendation.; DrillSize: Nominal, Complies with Manufacturer's Recommendation.; Published: 19-Mar-2004; DatasheetDocument: 14-Feb-2002; PackageReference: CAPPRS10-30X40; Publisher: Altium Limited; ComponentLink1Description: Manufacturer Link; ComponentLink1URL: http://www.vishay.com/; ComponentLink2Description: Datasheet; ComponentLink2URL: http://www.vishay.com/docs/25139/eyh.pdf; Value: 4700uF
footprint CAPPRS10-30X40 (Capacitor, Electrolytic, Radial, Snap-In Pins; Body 30 x 40 mm (Dia.xH typ); Pin Spacing 10 mm (typ))
simulation model CAP (Capacitor)
signal-integrity model EYH07BB447J02
pins: 1, 2
1 alternate drawing of the same symbol

## EYH07BB468H02
designator C?
Aluminum Electrolytic Capacitor, Power Capacitor Style EYH, Snap-in 6mm Solder Pins: 6800uF, 50V; PCB_Layout: Complies with Manufacturer's Recommendation.; DrillSize: Nominal, Complies with Manufacturer's Recommendation.; Published: 19-Mar-2004; DatasheetDocument: 14-Feb-2002; PackageReference: CAPPRS10-30X40; Publisher: Altium Limited; ComponentLink1Description: Manufacturer Link; ComponentLink1URL: http://www.vishay.com/; ComponentLink2Description: Datasheet; ComponentLink2URL: http://www.vishay.com/docs/25139/eyh.pdf; Value: 6800uF
footprint CAPPRS10-30X40 (Capacitor, Electrolytic, Radial, Snap-In Pins; Body 30 x 40 mm (Dia.xH typ); Pin Spacing 10 mm (typ))
simulation model CAP (Capacitor)
signal-integrity model EYH07BB468H02
pins: 1, 2
1 alternate drawing of the same symbol

## EYH07BB512F02
designator C?
Aluminum Electrolytic Capacitor, Power Capacitor Style EYH, Snap-in 6mm Solder Pins: 12000uF, 35V; PCB_Layout: Complies with Manufacturer's Recommendation.; DrillSize: Nominal, Complies with Manufacturer's Recommendation.; Published: 19-Mar-2004; DatasheetDocument: 14-Feb-2002; PackageReference: CAPPRS10-30X40; Publisher: Altium Limited; ComponentLink1Description: Manufacturer Link; ComponentLink1URL: http://www.vishay.com/; ComponentLink2Description: Datasheet; ComponentLink2URL: http://www.vishay.com/docs/25139/eyh.pdf; Value: 12000uF
footprint CAPPRS10-30X40 (Capacitor, Electrolytic, Radial, Snap-In Pins; Body 30 x 40 mm (Dia.xH typ); Pin Spacing 10 mm (typ))
simulation model CAP (Capacitor)
signal-integrity model EYH07BB512F02
pins: 1, 2
1 alternate drawing of the same symbol

## EYH07BB518E02
designator C?
Aluminum Electrolytic Capacitor, Power Capacitor Style EYH, Snap-in 6mm Solder Pins: 18000uF, 25V; PCB_Layout: Complies with Manufacturer's Recommendation.; DrillSize: Nominal, Complies with Manufacturer's Recommendation.; Published: 19-Mar-2004; DatasheetDocument: 14-Feb-2002; PackageReference: CAPPRS10-30X40; Publisher: Altium Limited; ComponentLink1Description: Manufacturer Link; ComponentLink1URL: http://www.vishay.com/; ComponentLink2Description: Datasheet; ComponentLink2URL: http://www.vishay.com/docs/25139/eyh.pdf; Value: 18000uF
footprint CAPPRS10-30X40 (Capacitor, Electrolytic, Radial, Snap-In Pins; Body 30 x 40 mm (Dia.xH typ); Pin Spacing 10 mm (typ))
simulation model CAP (Capacitor)
signal-integrity model EYH07BB518E02
pins: 1, 2
1 alternate drawing of the same symbol

## EYH07BB527D02
designator C?
Aluminum Electrolytic Capacitor, Power Capacitor Style EYH, Snap-in 6mm Solder Pins: 27000uF, 16V; PCB_Layout: Complies with Manufacturer's Recommendation.; DrillSize: Nominal, Complies with Manufacturer's Recommendation.; Published: 19-Mar-2004; DatasheetDocument: 14-Feb-2002; PackageReference: CAPPRS10-30X40; Publisher: Altium Limited; ComponentLink1Description: Manufacturer Link; ComponentLink1URL: http://www.vishay.com/; ComponentLink2Description: Datasheet; ComponentLink2URL: http://www.vishay.com/docs/25139/eyh.pdf; Value: 27000uF
footprint CAPPRS10-30X40 (Capacitor, Electrolytic, Radial, Snap-In Pins; Body 30 x 40 mm (Dia.xH typ); Pin Spacing 10 mm (typ))
simulation model CAP (Capacitor)
signal-integrity model EYH07BB527D02
pins: 1, 2
1 alternate drawing of the same symbol

## EYH07BB539C02
designator C?
Aluminum Electrolytic Capacitor, Power Capacitor Style EYH, Snap-in 6mm Solder Pins: 39000uF, 10V; PCB_Layout: Complies with Manufacturer's Recommendation.; DrillSize: Nominal, Complies with Manufacturer's Recommendation.; Published: 19-Mar-2004; DatasheetDocument: 14-Feb-2002; PackageReference: CAPPRS10-30X40; Publisher: Altium Limited; ComponentLink1Description: Manufacturer Link; ComponentLink1URL: http://www.vishay.com/; ComponentLink2Description: Datasheet; ComponentLink2URL: http://www.vishay.com/docs/25139/eyh.pdf; Value: 39000uF
footprint CAPPRS10-30X40 (Capacitor, Electrolytic, Radial, Snap-In Pins; Body 30 x 40 mm (Dia.xH typ); Pin Spacing 10 mm (typ))
simulation model CAP (Capacitor)
signal-integrity model EYH07BB539C02
pins: 1, 2
1 alternate drawing of the same symbol

## EYH07BB547B02
designator C?
Aluminum Electrolytic Capacitor, Power Capacitor Style EYH, Snap-in 6mm Solder Pins: 47000uF, 6.3V; PCB_Layout: Complies with Manufacturer's Recommendation.; DrillSize: Nominal, Complies with Manufacturer's Recommendation.; Published: 19-Mar-2004; DatasheetDocument: 14-Feb-2002; PackageReference: CAPPRS10-30X40; Publisher: Altium Limited; ComponentLink1Description: Manufacturer Link; ComponentLink1URL: http://www.vishay.com/; ComponentLink2Description: Datasheet; ComponentLink2URL: http://www.vishay.com/docs/25139/eyh.pdf; Value: 47000uF
footprint CAPPRS10-30X40 (Capacitor, Electrolytic, Radial, Snap-In Pins; Body 30 x 40 mm (Dia.xH typ); Pin Spacing 10 mm (typ))
simulation model CAP (Capacitor)
signal-integrity model EYH07BB547B02
pins: 1, 2
1 alternate drawing of the same symbol

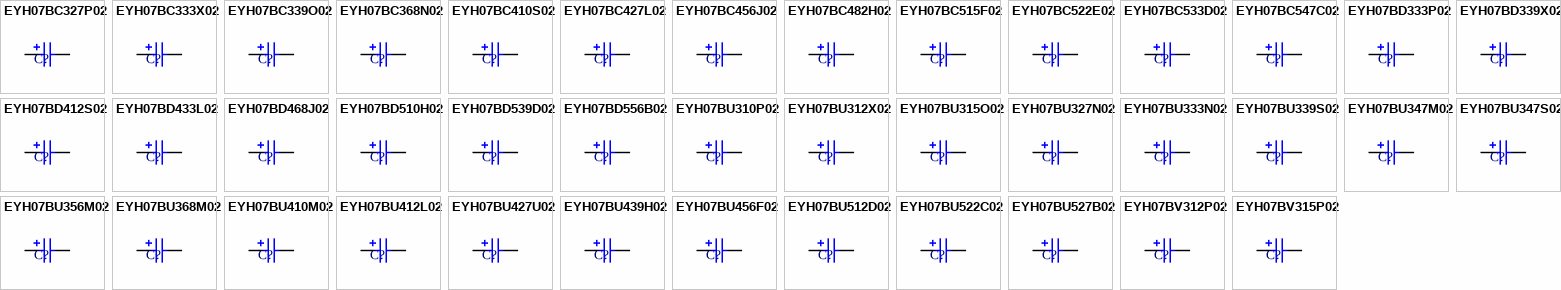
[diagram p6: symbols EYH07BC327P02 to EYH07BV315P02]